# Altium footprint library PcbLib1.PcbLib: 17 footprints (part 1 of 2)
Each footprint in its own frame and in the unit in brackets; x right, y up, seen from the top. Pads: shape width x height; smd on the part's side, far side on the other; paste and mask are expansions set on the pad; w line width, h text height; cw(c..) or ccw(c..) is an arc to the next point about the centre after c.
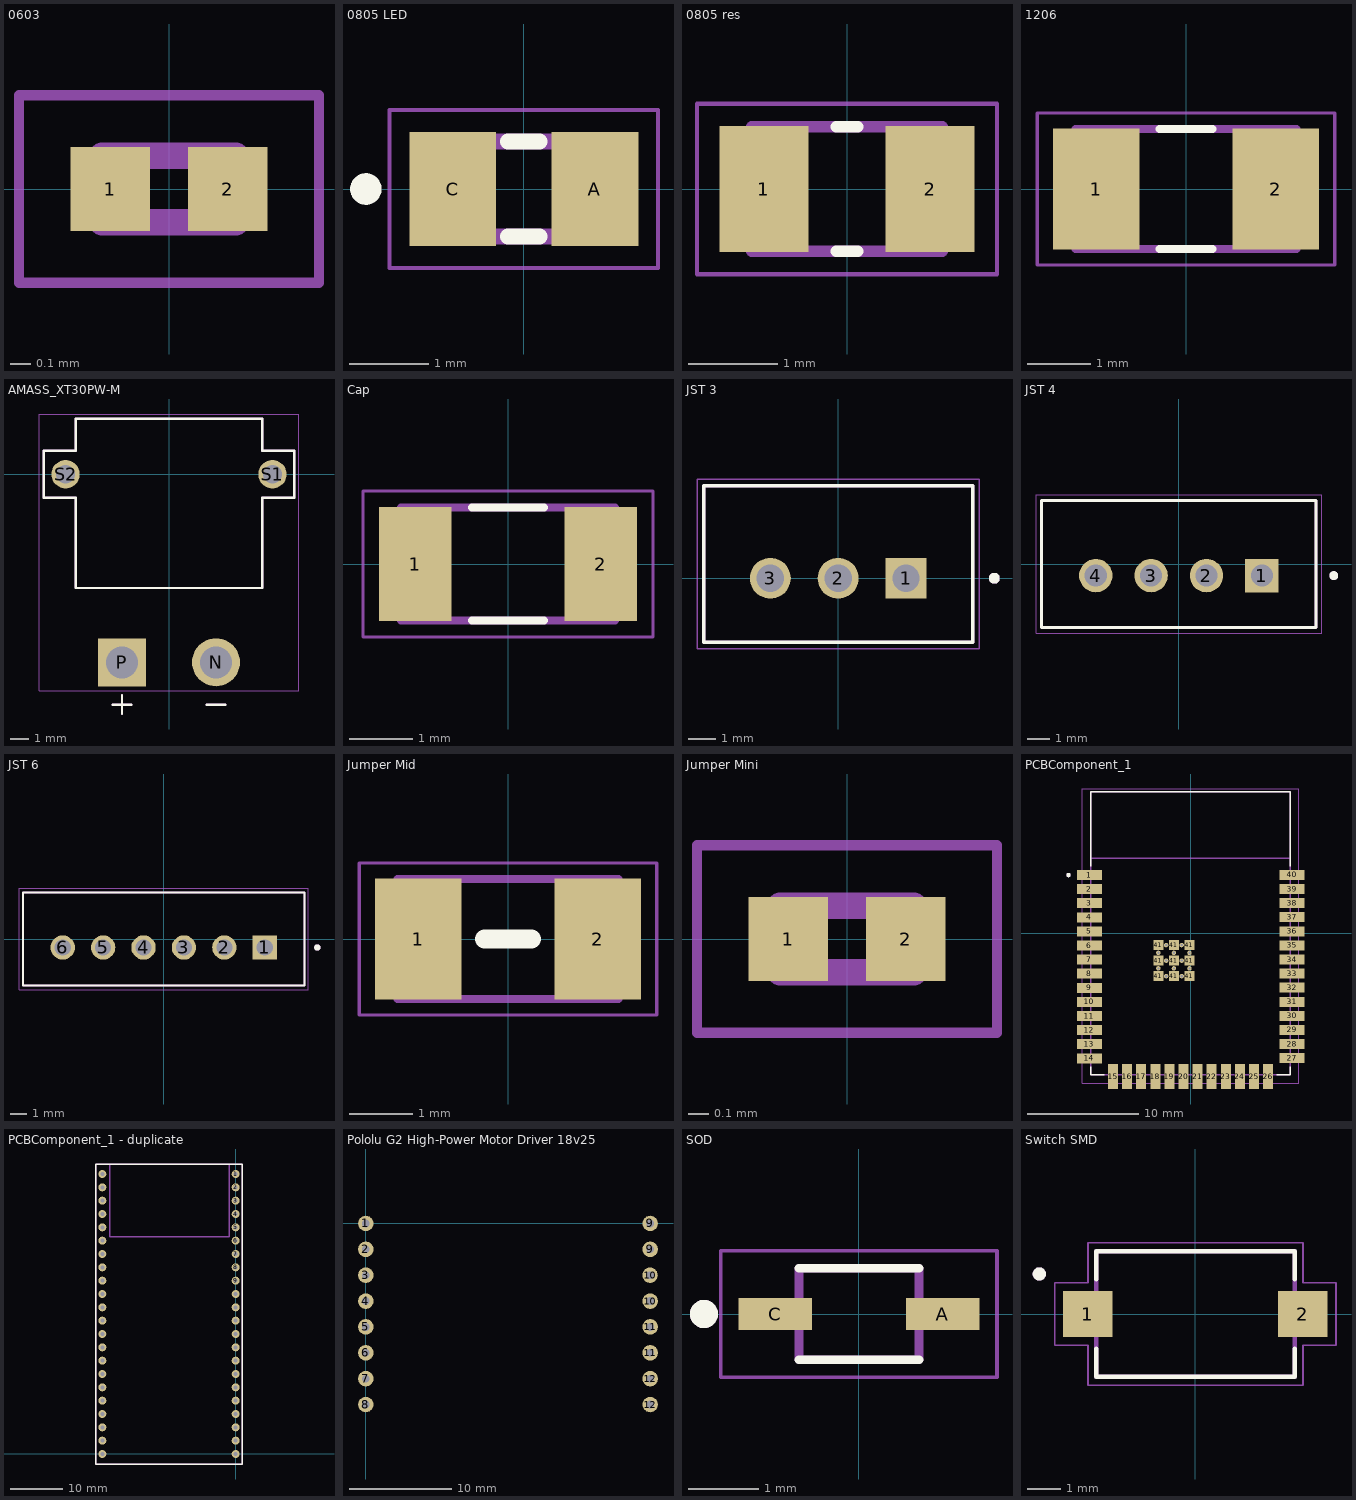
[diagram p0: the footprints below, top view; thin cyan lines are the x and y axes]

## 0603 [mm]
pads (2):
  rect 0.38x0.4 smd: 1(-0.281,0) 2(0.281,0)
Mechanical 13:
  lines w0.127: -0.32,-0.16 -0.32,0.16 0.32,0.16 0.32,-0.16 -0.32,-0.16
Mechanical 15:
  lines w0.05: -0.718,-0.448 -0.718,0.448 0.718,0.448 0.718,-0.448 -0.718,-0.448
3D body "step_temp.STEP": height 0.33, standoff 0, extent -0.3,-0.15 0.3,0.15

## 0805 LED [mm]
pads (2):
  rect 1.1x1.45 smd: A(0.9,0) C(-0.9,0)
Top Overlay:
  circle w0.2: c-2,0 r0.1
  lines w0.2: -0.2,-0.6 0.2,-0.6 ; -0.2,0.6 0.2,0.6
Mechanical 13:
  region: -0.5,-0.6 -1,-0.6 -1,0.6 -0.5,0.6
  region: 1,-0.6 0.5,-0.6 0.5,0.6 1,0.6
  lines w0.2: -1,-0.6 1,-0.6 1,0.6 -1,0.6 -1,-0.6
Mechanical 15:
  lines w0.05: -1.7,-1 1.7,-1 1.7,1 -1.7,1 -1.7,-1
3D body "step_temp.STEP": height 0.7, standoff 0, extent -1,-0.625 1,0.625

## 0805 res [mm]
pads (2):
  rect 1x1.42 smd: 1(-0.935,0) 2(0.935,0)
Top Overlay:
  lines w0.127: -0.12,-0.7 0.12,-0.7 ; -0.12,0.7 0.12,0.7
Mechanical 13:
  lines w0.127: -1.07,-0.7 -1.07,0.7 1.07,0.7 1.07,-0.7 -1.07,-0.7
Mechanical 15:
  lines w0.05: -1.685,-0.96 -1.685,0.96 1.685,0.96 1.685,-0.96 -1.685,-0.96
3D body "step_temp.STEP": height 0.6, standoff 0, extent -1,-0.625 1,0.625

## 1206 [mm]
pads (2):
  rect 1.37x1.91 smd: 1(-1.421,0) 2(1.421,0)
Top Overlay:
  lines w0.127: -0.42,-0.95 0.42,-0.95 ; -0.42,0.95 0.42,0.95
Mechanical 13:
  lines w0.127: -1.75,-0.95 1.75,-0.95 1.75,0.95 -1.75,0.95 -1.75,-0.95
Mechanical 15:
  lines w0.05: -2.355,-1.205 2.355,-1.205 2.355,1.205 -2.355,1.205 -2.355,-1.205
3D body "step_temp.STEP": height 1.9, standoff 0, extent -1.6,-0.8 1.6,0.8

## AMASS_XT30PW-M [mm]
height 5
pads (4):
  round 2.55 hole 1.7: N(2.5,-10)
  rect 2.55x2.55 / inner round 2.55 / far side rect 2.55x2.55 hole 1.7: P(-2.5,-10)
  round 1.508 hole 1: S1(5.5,0) S2(-5.5,0)
Top Overlay:
  lines w0.127: -3,-12.25 -2,-12.25 ; -2.5,-12.75 -2.5,-11.75 ; 2,-12.25 3,-12.25 ; -6.65,-1.25 -6.65,1.25 -4.95,1.25 -4.95,2.95 4.95,2.95 4.95,1.25 6.65,1.25 6.65,-1.25 4.95,-1.25 4.95,-6.05 -4.95,-6.05 -4.95,-1.25 -6.65,-1.25
Mechanical 13:
  lines w0.127: -3,-12.25 -2,-12.25 ; -2.5,-12.75 -2.5,-11.75 ; 2,-12.25 3,-12.25 ; -6.65,-1.25 -6.65,1.25 -4.95,1.25 -4.95,2.95 4.95,2.95 4.95,1.25 6.65,1.25 6.65,-1.25 4.95,-1.25 4.95,-6.05 -4.95,-6.05 -4.95,-1.25 -6.65,-1.25
Mechanical 15:
  lines w0.05: -6.9,-11.525 6.9,-11.525 6.9,3.2 -6.9,3.2 -6.9,-11.525
3D body "step_temp.STEP": height 5, standoff -2, extent -6.65,-11 6.65,2.95

## Cap [mm]
pads (2):
  rect 1.16x1.82 smd: 1(-1.475,0) 2(1.475,0)
Top Overlay:
  lines w0.127: -0.57,-0.9 0.57,-0.9 ; -0.57,0.9 0.57,0.9
Mechanical 13:
  lines w0.127: -1.7,-0.9 -1.7,0.9 1.7,0.9 1.7,-0.9 -1.7,-0.9
Mechanical 15:
  lines w0.05: -2.308,-1.158 -2.308,1.158 2.308,1.158 2.308,-1.158 -2.308,-1.158

## JST 3 [mm]
pads (3):
  rect 1.508x1.508 / inner round 1.508 / far side rect 1.508x1.508 hole 1: 1(2.5,0)
  round 1.508 hole 1: 2(0,0) 3(-2.5,0)
Top Overlay:
  circle w0.2: c5.75,0 r0.1
  lines w0.127: -4.95,-2.35 4.95,-2.35 4.95,3.4 -4.95,3.4 -4.95,-2.35
Mechanical 13:
  circle w0.2: c5.75,0 r0.1
  lines w0.127: -4.95,-2.35 4.95,-2.35 4.95,3.4 -4.95,3.4 -4.95,-2.35
Mechanical 15:
  lines w0.05: -5.2,-2.6 5.2,-2.6 5.2,3.65 -5.2,3.65 -5.2,-2.6
3D body "step_temp.STEP": height 7, standoff -3.4, extent -4.95,-2.35 4.95,3.4

## JST 4 [mm]
pads (4):
  rect 1.508x1.508 / inner round 1.508 / far side rect 1.508x1.508 hole 1: 1(3.75,-0.525)
  round 1.508 hole 1: 2(1.25,-0.525) 3(-1.25,-0.525) 4(-3.75,-0.525)
Top Overlay:
  circle w0.2: c7,-0.525 r0.1
  lines w0.127: -6.2,-2.875 -6.2,2.875 6.2,2.875 6.2,-2.875 -6.2,-2.875
Mechanical 13:
  circle w0.2: c7,-0.525 r0.1
  lines w0.127: -6.2,-2.875 -6.2,2.875 6.2,2.875 6.2,-2.875 -6.2,-2.875
Mechanical 15:
  lines w0.05: -6.45,-3.125 -6.45,3.125 6.45,3.125 6.45,-3.125 -6.45,-3.125
3D body "step_temp.STEP": height 7, standoff -3.4, extent -6.2,-2.875 6.2,2.875

## JST 6 [mm]
pads (6):
  rect 1.508x1.508 / inner round 1.508 / far side rect 1.508x1.508 hole 1: 1(6.25,-0.525)
  round 1.508 hole 1: 2(3.75,-0.525) 3(1.25,-0.525) 4(-1.25,-0.525) 5(-3.75,-0.525) 6(-6.25,-0.525)
Top Overlay:
  circle w0.2: c9.5,-0.525 r0.1
  lines w0.127: -8.7,-2.875 8.7,-2.875 8.7,2.875 -8.7,2.875 -8.7,-2.875
Mechanical 13:
  circle w0.2: c9.5,-0.525 r0.1
  lines w0.127: -8.7,-2.875 8.7,-2.875 8.7,2.875 -8.7,2.875 -8.7,-2.875
Mechanical 15:
  lines w0.05: -8.95,-3.125 8.95,-3.125 8.95,3.125 -8.95,3.125 -8.95,-3.125
3D body "step_temp.STEP": height 7, standoff -3.4, extent -8.7,-2.875 8.7,2.875

## Jumper Mid [mm]
pads (2):
  rect 1.37x1.91 smd: 1(-1.421,0) 2(1.421,0)
Top Overlay:
  lines w0.3: -0.375,0 0,0 0.375,0
Mechanical 13:
  lines w0.127: -1.75,-0.95 1.75,-0.95 1.75,0.95 -1.75,0.95 -1.75,-0.95
Mechanical 15:
  lines w0.05: -2.355,-1.205 2.355,-1.205 2.355,1.205 -2.355,1.205 -2.355,-1.205

## Jumper Mini [mm]
pads (2):
  rect 0.38x0.4 smd: 1(-0.281,0) 2(0.281,0)
Mechanical 13:
  lines w0.127: -0.32,-0.16 -0.32,0.16 0.32,0.16 0.32,-0.16 -0.32,-0.16
Mechanical 15:
  lines w0.05: -0.718,-0.448 -0.718,0.448 0.718,0.448 0.718,-0.448 -0.718,-0.448

## PCBComponent_1 [mm]
pads (61):
  rect 2.25x0.9 smd: 1(-9.125,5.25) 2(-9.125,3.98) 3(-9.125,2.71) 4(-9.125,1.44) 5(-9.125,0.17) 6(-9.125,-1.1) 7(-9.125,-2.37) 8(-9.125,-3.64) 9(-9.125,-4.91) 10(-9.125,-6.18) 11(-9.125,-7.45) 12(-9.125,-8.72) 13(-9.125,-9.99) 14(-9.125,-11.26) 27(9.15,-11.25) 28(9.15,-9.98) 29(9.15,-8.71) 30(9.15,-7.44) 31(9.15,-6.17) 32(9.15,-4.9) 33(9.15,-3.63) 34(9.15,-2.36) 35(9.15,-1.09) 36(9.15,0.18) 37(9.15,1.45) 38(9.15,2.72) 39(9.15,3.99) 40(9.15,5.26)
  rect 0.9x2.25 smd: 15(-6.985,-12.9) 16(-5.715,-12.9) 17(-4.445,-12.9) 18(-3.175,-12.9) 19(-1.905,-12.9) 20(-0.635,-12.9) 21(0.635,-12.9) 22(1.905,-12.9) 23(3.175,-12.9) 24(4.445,-12.9) 25(5.715,-12.9) 26(6.985,-12.9)
  rect 0.9x0.9 smd: 41(-2.9,-3.86) 41(-2.9,-2.46) 41(-2.9,-1.06) 41(-1.5,-3.86) 41(-1.5,-2.46) 41(-1.5,-1.06) 41(-0.1,-3.86) 41(-0.1,-2.46) 41(-0.1,-1.06)
  round 0.4 hole 0.2 mask+0: 41_10(-1.5,-1.76) 41_11(-2.9,-1.76) 41_12(-0.1,-1.76) 41_13(-2.9,-3.16) 41_14(-1.5,-3.16) 41_15(-0.1,-3.16) 41_16(-2.2,-1.06) 41_17(-0.8,-1.06) 41_18(-2.2,-2.46) 41_19(-0.8,-2.46) 41_20(-2.2,-3.86) 41_21(-0.8,-3.86)
Top Overlay:
  lines w0.127: -9,-12.02 -9,-12.75 -7.755,-12.75 ; -9,6.03 -9,12.75 9,12.75 9,6.03 ; 7.755,-12.75 9,-12.75 9,-12.02
  lines w0.2: -10.904,5.278 ccw(c-11,5.25) -10.9,5.25
Mechanical 13:
  circle w0.2: c-11,5.25 r0.1
  lines w0.127: -9,6.75 9,6.75 ; -9,6.75 -9,12.75 9,12.75 9,6.75 ; -9,6.75 -9,-12.75 9,-12.75 9,6.75
  text "ANTENNA" at -4.5,9.5 h1.27
Mechanical 15:
  lines w0.05: -9.75,-13.5 -9.75,13 9.75,13 9.75,-13.5 -9.75,-13.5
3D body "step_temp.STEP": height 3.25, standoff 0, extent -9,-12.75 9,12.75

## PCBComponent_1 - duplicate [mil]
pads (44):
  round 60 hole 30: 1(0,2100) 2(0,2000) 3(0,1900) 4(0,1800) 5(0,1700) 6(0,1600) 7(0,1500) 8(0,1400) 9(0,1300) 10(0,1200) 11(0,1100) 12(0,1000) 13(0,900) 14(0,800) 15(0,700) 16(0,600) 17(0,500) 18(0,400) 19(0,300) 20(0,200) 21(0,100) 22(0,0) 23(-1000,0) 24(-1000,100) 25(-1000,200) 26(-1000,300) 27(-1000,400) 28(-1000,500) 29(-1000,600) 30(-1000,700) 31(-1000,800) 32(-1000,900) 33(-1000,1000) 34(-1000,1100) 35(-1000,1200) 36(-1000,1300) 37(-1000,1400) 38(-1000,1500) 39(-1000,1600) 40(-1000,1700) 41(-1000,1800) 42(-1000,1900) 43(-1000,2000) 44(-1000,2100)
Top Overlay:
  lines w10: 0,2175.2 50,2175.2 ; 50,2175.2 50,-75.2 -1050,-75.2 -1050,2175.2 50,2175.2
Mechanical 13:
  lines w10: -944.88,2173.23 -944.88,1629.92 -49.21,1629.92 -49.21,2173.23 ; 0,2175.2 50,2175.2 ; 50,2175.2 50,-75.2 -1050,-75.2 -1050,2175.2 50,2175.2

## Pololu G2 High-Power Motor Driver 18v25 [mil]
pads (16):
  round 60 hole 30: 1(0,0) 2(0,-100) 3(0,-200) 4(0,-300) 5(0,-400) 6(0,-500) 7(0,-600) 8(0,-700) 9(1100,-100) 9(1100,0) 10(1099.21,-200) 10(1100,-300) 11(1100,-500) 11(1100,-400) 12(1100,-700) 12(1100,-600)
3D body "g2-high-power-motor-driver-md31b.step": height 476.96, standoff 60.63, extent -50.79,-749.61 1249.21,50.39

## SOD [mm]
pads (2):
  rect 1.04x0.46 smd: A(1.19,0) C(-1.19,0)
Top Overlay:
  circle w0.2: c-2.2,0 r0.1
  lines w0.127: -0.85,-0.65 0.85,-0.65 ; -0.85,0.65 0.85,0.65
Mechanical 13:
  circle w0.2: c-2.2,0 r0.1
  lines w0.127: -0.85,-0.65 -0.85,0.65 0.85,0.65 0.85,-0.65 -0.85,-0.65
Mechanical 15:
  lines w0.05: -1.96,-0.9 -1.96,0.9 1.96,0.9 1.96,-0.9 -1.96,-0.9

## Switch SMD [mm]
pads (2):
  rect 1.5x1.4 smd: 1(-3.25,0) 2(3.25,0)
Top Overlay:
  circle w0.2: c-4.72,1.21 r0.1
  lines w0.127: -3,-1.05 -3,-1.9 3,-1.9 3,-1.05 ; -3,1.05 -3,1.9 3,1.9 3,1.05
Mechanical 13:
  circle w0.2: c-4.72,1.21 r0.1
  lines w0.127: -3,-1.9 -3,1.9 3,1.9 3,-1.9 -3,-1.9
Mechanical 15:
  lines w0.05: -4.25,-0.95 -3.25,-0.95 -3.25,-2.15 3.25,-2.15 3.25,-0.95 4.25,-0.95 4.25,0.95 3.25,0.95 3.25,2.15 -3.25,2.15 -3.25,0.95 -4.25,0.95 -4.25,-0.95